# Altium schematic symbol library MYO-BT_SchLib.SchLib: 7 symbols
Pins are listed as number, name and electrical type; pins without a type are passive.

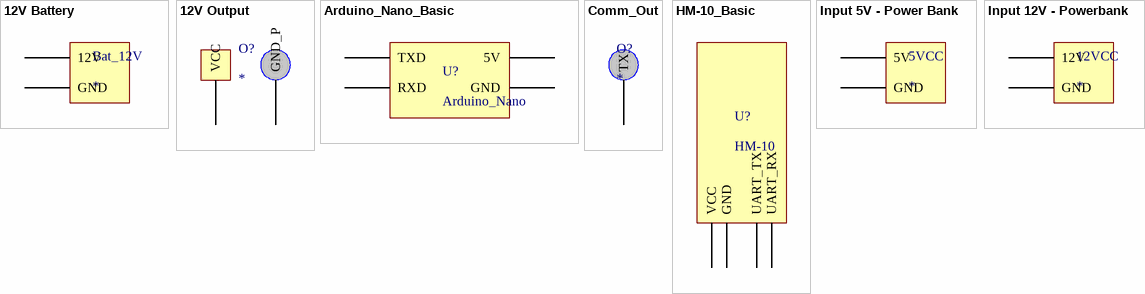
[diagram p0: symbols 12V Battery to Input 12V - Powerbank]

## 12V Battery
designator Bat_12V
footprint 12VCC
pins: 1 12V, 2 GND

## 12V Output
designator O?
footprint Vout
pins: 1 VCC, 2 GND_P

## Arduino_Nano_Basic
designator U?, comment Arduino_Nano
Arduino Nano with only the necessary pins for this application.
footprint Arduino Nano
pins: 5V, GND, RXD, TXD

## Comm_Out
designator O?
footprint Comm_Out
pins: 1 TX

## HM-10_Basic
designator U?, comment HM-10
HM-10, just with necessary pins for this application
footprint HM-10
pins: 1 VCC, 2 GND, 3 UART_TX, 4 UART_RX

## Input 5V - Power Bank
designator 5VCC
footprint 5VCC
pins: 1 5V, 2 GND

## Input 12V - Powerbank
designator 12VCC
footprint 12VCC
pins: 1 12V, 2 GND